# Altium footprint library PCB - CAPACITOR - ALUMINIUM - CAP TH ALUM ELEC D35.00mm S10.00mm H40.00mm.PCBLIB: 1 footprints
Each footprint in its own frame and in the unit in brackets; x right, y up, seen from the top. Pads: shape width x height; smd on the part's side, far side on the other; paste and mask are expansions set on the pad; w line width, h text height; cw(c..) or ccw(c..) is an arc to the next point about the centre after c.
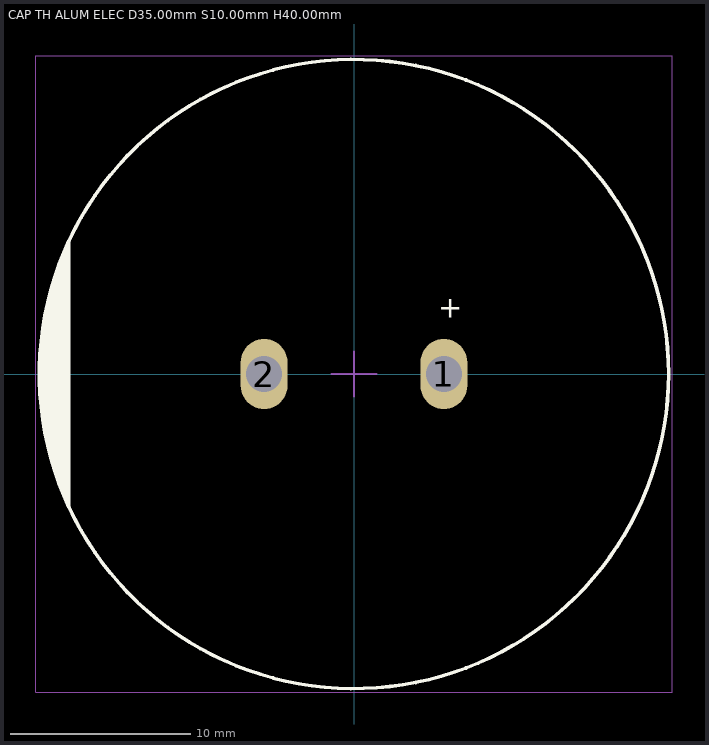
[diagram p0: the footprint, top view; thin cyan lines are the x and y axes]

## CAP TH ALUM ELEC D35.00mm S10.00mm H40.00mm [mm] "35mm Diameter 10mm Lead Spacing Aluminum Electrolytic Capacitors Radial, Can , Snap-In"
height 40
pads (2):
  oval 2.6x3.9 hole 2: 1(5,0) 2(-5,0)
Top Overlay:
  circle w0.2: c0,0 r17.5
  region: -15.86,-7.396 -16.129,-6.819 -16.582,-5.629 -16.947,-4.409 -17.223,-3.166 -17.407,-1.906 -17.5,-0.637 -17.5,0.637 -17.407,1.906 -17.223,3.166 -16.947,4.409 -16.582,5.629 -16.129,6.819 -15.86,7.396
  lines w0.2: -15.86,-7.396 cw(c0,0) -15.86,7.396 -15.86,-7.396
  text "+" at 4.7,2.75 h2
Mechanical 13:
  circle w0.1: c0,0 r17.5
  lines w0.1: -15.86,-7.396 -15.86,7.396
Mechanical 15:
  lines w0.05: -17.7,-17.7 -17.7,17.7 17.7,17.7 17.7,-17.7 -17.7,-17.7
  lines w0.1: -1.25,0 0,0 ; 0,-1.25 0,0 ; 0,1.25 0,0 ; 1.25,0 0,0
3D body "Cap TH D35.00mm H40.00mm L10.00mm.step": height 40, standoff -2.5, extent -17.21,-17.8 17.8,17.2